# EAGLE library part LSM303DLHC (library stm32f4)
Ultra compact high performance e-compass, 3D accelerometer and 3D magnetometer module LIS302DL
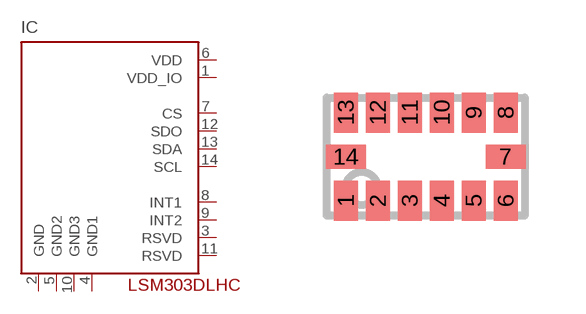
[diagram p3: symbol with the pads of LGA-14; footprint LGA-14]

Designator prefix IC

## LSM303DLHC  [LGA-14]
1  VDD_IO  pwr
2  GND  pwr
3  RSVD  pas
4  GND1  pas
5  GND2  pas
6  VDD  pwr
7  CS
8  INT1
9  INT2
10  GND3  pas
11  RSVD  pas
12  SDO  pas
13  SDA
14  SCL

## Footprint LGA-14 (pad centres in mm)
LGA 3x5x1 14L Land Grid Array Package Source: DM00027543-118326.pdf
smd 0.6 x 1: 1 -2,-1.1; 2 -1.2,-1.1; 3 -0.4,-1.1; 4 0.4,-1.1; 5 1.2,-1.1; 6 2,-1.1; 8 2,1.1; 9 1.2,1.1; 10 0.4,1.1; 11 -0.4,1.1; 12 -1.2,1.1; 13 -2,1.1
smd 1 x 0.6: 7 2,0; 14 -2,0